# Altium schematic symbol library Murata.SchLib: 2 symbols
Pins are listed as number, name and electrical type; pins without a type are passive.

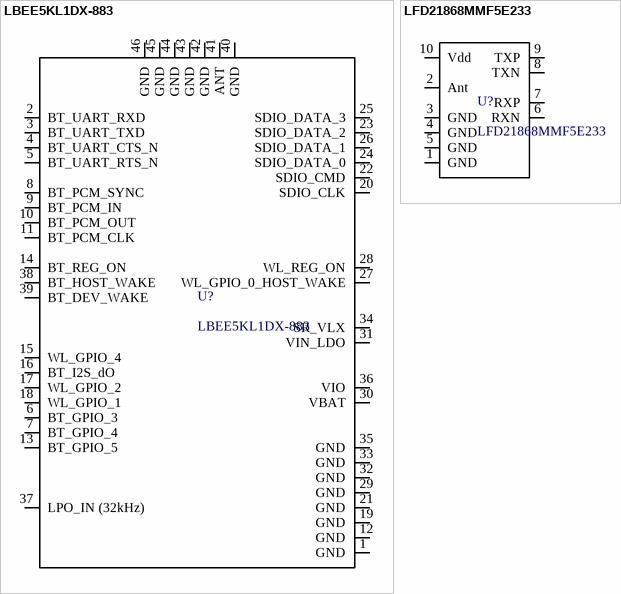
[diagram p0: symbols LBEE5KL1DX-883 to LFD21868MMF5E233]

## LBEE5KL1DX-883
designator U?
W-LAN+Bluetooth Combo Module; Manufacturer: Murata; Part Number: LBEE5KL1DX-883; Price 1: $21.35; Price 100: *; Price 1000: $17.79
footprint LBEE5KL1DX-883 (W-LAN+Bluetooth Combo Module)
pins: 1 GND, 2 BT_UART_RXD, 3 BT_UART_TXD, 4 BT_UART_CTS_N, 5 BT_UART_RTS_N, 6 BT_GPIO_3, 7 BT_GPIO_4, 8 BT_PCM_SYNC, 9 BT_PCM_IN, 10 BT_PCM_OUT, 11 BT_PCM_CLK, 12 GND, 13 BT_GPIO_5, 14 BT_REG_ON, 15 WL_GPIO_4, 16 BT_I2S_dO, 17 WL_GPIO_2, 18 WL_GPIO_1, 19 GND, 20 SDIO_CLK, 21 GND, 22 SDIO_CMD, 23 SDIO_DATA_2, 24 SDIO_DATA_0, 25 SDIO_DATA_3, 26 SDIO_DATA_1, 27 WL_GPIO_0_HOST_WAKE, 28 WL_REG_ON, 29 GND, 30 VBAT, 31 VIN_LDO, 32 GND, 33 GND, 34 SR_VLX, 35 GND, 36 VIO, 37 LPO_IN (32kHz), 38 BT_HOST_WAKE, 39 BT_DEV_WAKE, 40 GND, 41 ANT, 42 GND, 43 GND, 44 GND, 45 GND, 46 GND

## LFD21868MMF5E233
designator U?
Manufacturer: Murata; Part Number: LFD21868MMF5E233
footprint LFD21868MMF5E233
pins: 1 GND, 2 Ant, 3 GND, 4 GND, 5 GND, 6 RXN, 7 RXP, 8 TXN, 9 TXP, 10 Vdd